# Altium footprint library PQFN-5x6.PcbLib: 1 footprints
Each footprint in its own frame and in the unit in brackets; x right, y up, seen from the top. Pads: shape width x height; smd on the part's side, far side on the other; paste and mask are expansions set on the pad; w line width, h text height; cw(c..) or ccw(c..) is an arc to the next point about the centre after c.
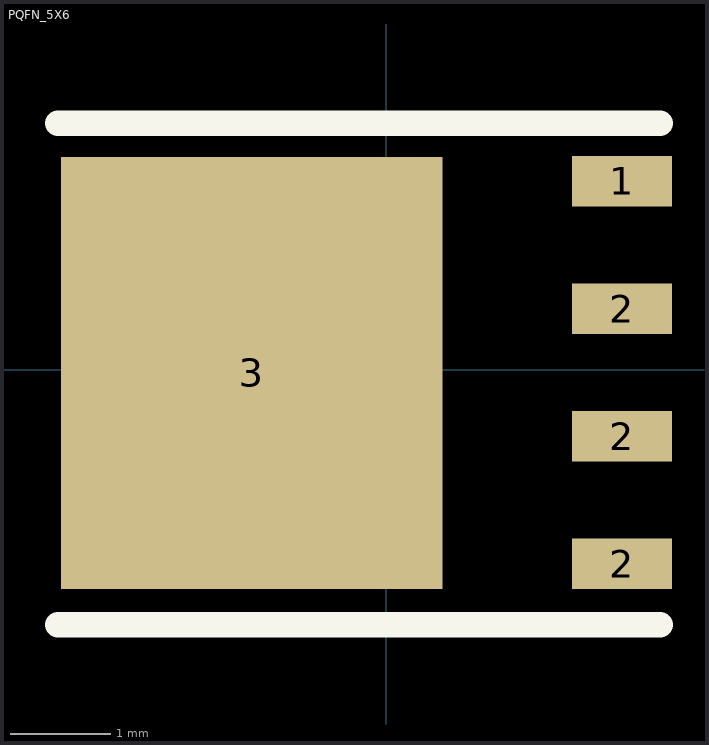
[diagram p0: the footprint, top view; thin cyan lines are the x and y axes]

## PQFN_5X6 [mm]
pads (5):
  rect 1x0.5 smd: 1(2.35,1.88) 2(2.35,-1.93) 2(2.35,-0.66) 2(2.35,0.61)
  rect 3.8x4.3 smd: 3(-1.34,-0.03)
Top Overlay:
  lines w0.254: -3.27,-2.54 2.73,-2.54 ; -3.27,2.46 2.73,2.46
3D body "PQFN 5x6.step": height 0.9, standoff 0, extent -3.264,-2.5 2.756,2.5